# EAGLE library part PWR_REG_BUCK_6P (library !GPLIB_ACTIVE)
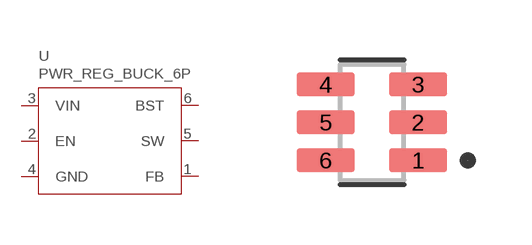
[diagram p9: symbol with the pads of SOT95P280X110-6N; footprint SOT95P280X110-6N]

Designator prefix U

## PWR_REG_BUCK_6P_AP63200WU-7  [SOT95P280X110-6N]
1  FB  in
2  EN  in
3  VIN  pwr
4  GND  pwr
5  SW  pwr
6  BST  in

## Footprint SOT95P280X110-6N (pad centres in mm)
smd 1.45 x 0.59: 1 1.155,-0.95; 2 1.155,0; 3 1.155,0.95; 4 -1.155,0.95; 5 -1.155,0; 6 -1.155,-0.95